# Altium footprint library IND_TH.PcbLib: 9 footprints
Each footprint in its own frame and in the unit in brackets; x right, y up, seen from the top. Pads: shape width x height; smd on the part's side, far side on the other; paste and mask are expansions set on the pad; w line width, h text height; cw(c..) or ccw(c..) is an arc to the next point about the centre after c.
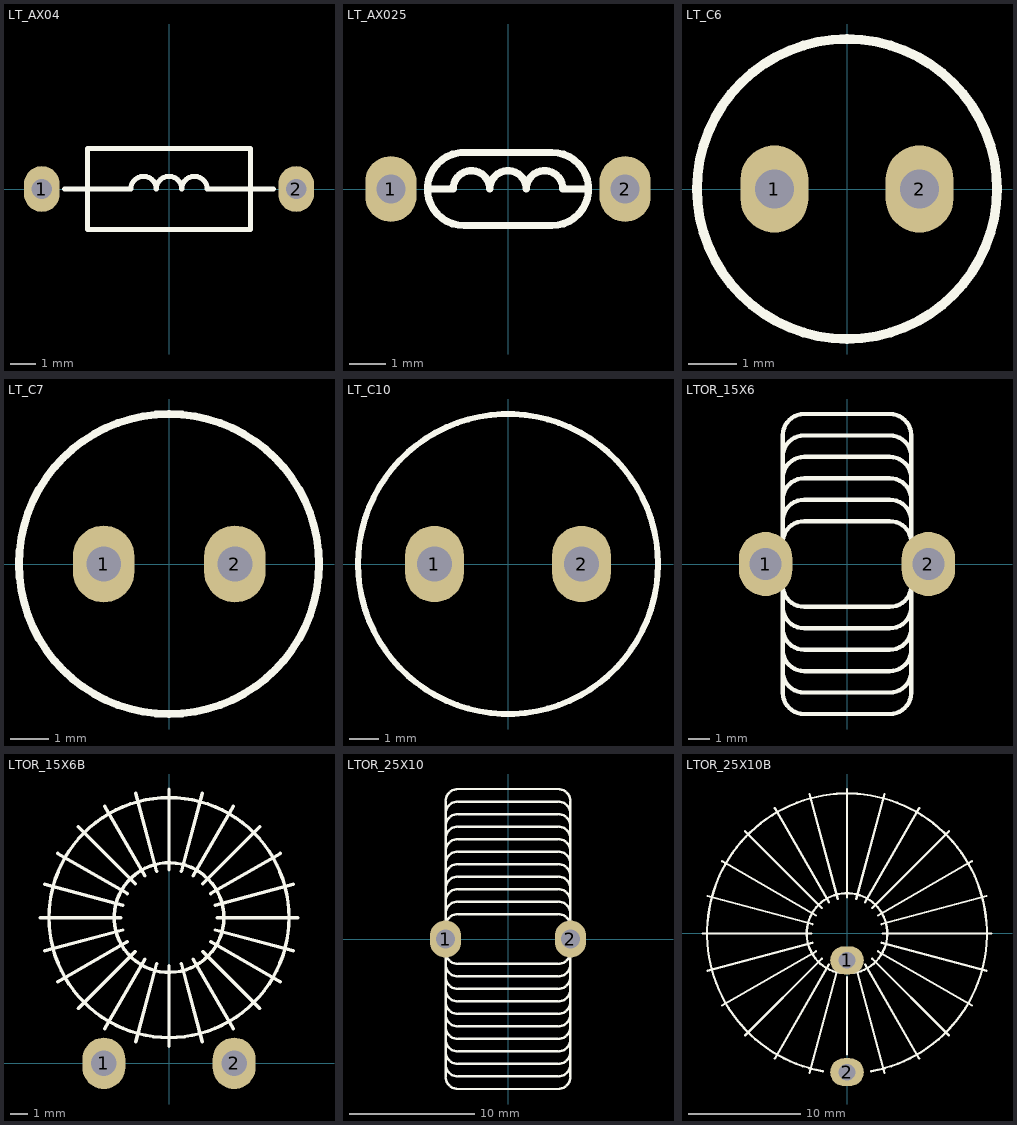
[diagram p0: the footprints below, top view; thin cyan lines are the x and y axes]

## LT_AX04 [mm] "INDUCTOR, Axial, 9.8mm,"
pads (2):
  oval 1.4x1.8 hole 0.8: 1(-5,0) 2(5,0)
Top Overlay:
  lines w0.2: -4.1,0 -1.5,0 cw(c-1,0) -0.5,0 cw(c0,0) 0.5,0 cw(c1,0) 1.5,0 4.1,0 ; -3.2,-1.6 -3.2,1.6 3.2,1.6 3.2,-1.6 -3.2,-1.6
3D body "RES 0.25W.STEP": height 2.69, standoff -2.11, extent -5.15,-1.568 5.15,1.568

## LT_AX025 [mm] "INDUCTOR, Axial, 6.4mm,"
pads (2):
  oval 1.4x1.8 hole 0.8 mask+0.1: 1(-3.2,0) 2(3.2,0)
Top Overlay:
  lines w0.2: -2.2,0 -1.5,0 cw(c-1,0) -0.5,0 cw(c0,0) 0.5,0 cw(c1,0) 1.5,0 2.2,0 ; -1.3,1 1.2,1 cw(c1.2,0) 1.2,-1 -1.2,-1 cw(c-1.2,0) -1.2,1
3D body "Inductor.STEP": height 1.92, standoff -2, extent -3.429,-0.92 3.429,0.92

## LT_C6 [mm] "INDUCTOR, Cylinder, 6mm,"
pads (2):
  oval 1.4x1.8 hole 0.8 mask+0.1: 1(-1.5,0) 2(1.5,0)
Top Overlay:
  circle w0.2: c0,0 r3.1
3D body "User Library-L6-8-3.STEP": height 8, standoff -3.7, extent -3,-3 3,3

## LT_C7 [mm] "INDUCTOR, Cylinder, 7.5mm,"
pads (2):
  oval 1.6x2 hole 0.9 mask+0.1: 1(-1.7,0) 2(1.714,0)
Top Overlay:
  circle w0.2: c0,0 r3.9
3D body "Coilcraft-DR0608-DEFAULT.STEP": height 10.7, standoff -3.8, extent -3.75,-3.75 3.75,3.75

## LT_C10 [mm] "INDUCTOR, Cylinder, 10mm,"
pads (2):
  oval 2x2.6 hole 1.2: 1(-2.5,0) 2(2.5,0)
Top Overlay:
  circle w0.2: c0,0 r5.1
3D body "User Library-Inductor 10x12 (200 mils).STEP": height 12.13, standoff -3.87, extent -5,-5 5,5

## LTOR_15X6 [mm] "INDUCTOR, TORIOD, 15.0X6.0mm"
pads (2):
  oval 2.5x3 hole 1.5: 1(-3.8,0) 2(3.8,0)
Top Overlay:
  lines w0.2: -3,-5 ccw(c-2,-5) -2,-6 2,-6 ccw(c2,-5) 3,-5 ; -3,-4 ccw(c-2,-4) -2,-5 2,-5 ccw(c2,-4) 3,-4 ; -3,-3 ccw(c-2,-3) -2,-4 2,-4 ccw(c2,-3) 3,-3 ; -3,-2 ccw(c-2,-2) -2,-3 2,-3 ccw(c2,-2) 3,-2 ; -3,-1.3 -3,-6 ccw(c-2,-6) -2,-7 2,-7 ccw(c2,-6) 3,-6 3,-1.3 ; -3,-1 ccw(c-2,-1) -2,-2 2,-2 ccw(c2,-1) 3,-1 ; -3,1 cw(c-2,1) -2,2 2,2 cw(c2,1) 3,1 ; -3,1.3 -3,6 cw(c-2,6) -2,7 2,7 cw(c2,6) 3,6 3,1.3 ; -3,2 cw(c-2,2) -2,3 2,3 cw(c2,2) 3,2 ; -3,3 cw(c-2,3) -2,4 2,4 cw(c2,3) 3,3 ; -3,4 cw(c-2,4) -2,5 2,5 cw(c2,4) 3,4 ; -3,5 cw(c-2,5) -2,6 2,6 cw(c2,5) 3,5
3D body "Inductor1_70_2.step": height 13.85, standoff -5.5, extent -3.85,-6.847 3.85,6.847

## LTOR_15X6B [mm] "INDUCTOR, TORIOD, 15.0X6.0mm BENDED"
pads (2):
  oval 2.5x3 hole 1.5: 1(-3.8,0) 2(3.8,0)
Top Overlay:
  circle w0.2: c0.004,8.5 r3.2
  circle w0.2: c0,8.5 r7
  lines w0.2: -7.5,8.5 -2.8,8.5 ; -7.244,6.559 -2.705,7.775 ; -7.244,10.441 -2.705,9.225 ; -6.495,4.75 -2.425,7.1 ; -6.495,12.25 -2.425,9.9 ; -5.303,3.197 -1.98,6.52 ; -5.303,13.803 -1.98,10.48 ; -3.75,2.005 -1.4,6.075 ; -3.75,14.995 -1.4,10.925 ; -1.941,1.256 -0.725,5.795 ; -1.941,15.744 -0.725,11.205 ; 0,1 0,5.7 ; 0,11.3 0,16 ; 0.725,5.795 1.941,1.256 ; 0.725,11.205 1.941,15.744 ; 1.4,6.075 3.75,2.005 ; 1.4,10.925 3.75,14.995 ; 1.98,6.52 5.303,3.197 ; 1.98,10.48 5.303,13.803 ; 2.425,7.1 6.495,4.75 ; 2.425,9.9 6.495,12.25 ; 2.705,7.775 7.244,6.559 ; 2.705,9.225 7.244,10.441 ; 2.8,8.5 7.5,8.5
3D body "Inductor1_70_2.step": height 7.65, standoff -0.05, extent -6.847,-3.9 6.847,15.446

## LTOR_25X10 [mm] "INDUCTOR, TORIOD, 25.0X10.0mm"
pads (2):
  oval 2.5x3 hole 1.5: 1(-5,0) 2(5,0)
Top Overlay:
  lines w0.2: -5,-10 ccw(c-4,-10) -4,-11 4,-11 ccw(c4,-10) 5,-10 ; -5,-9 ccw(c-4,-9) -4,-10 4,-10 ccw(c4,-9) 5,-9 ; -5,-8 ccw(c-4,-8) -4,-9 4,-9 ccw(c4,-8) 5,-8 ; -5,-7 ccw(c-4,-7) -4,-8 4,-8 ccw(c4,-7) 5,-7 ; -5,-6 ccw(c-4,-6) -4,-7 4,-7 ccw(c4,-6) 5,-6 ; -5,-5 ccw(c-4,-5) -4,-6 4,-6 ccw(c4,-5) 5,-5 ; -5,-4 ccw(c-4,-4) -4,-5 4,-5 ccw(c4,-4) 5,-4 ; -5,-3 ccw(c-4,-3) -4,-4 4,-4 ccw(c4,-3) 5,-3 ; -5,-2 ccw(c-4,-2) -4,-3 4,-3 ccw(c4,-2) 5,-2 ; -5,-1.3 -5,-11 ccw(c-4,-11) -4,-12 4,-12 ccw(c4,-11) 5,-11 5,-1.3 ; -5,-1 ccw(c-4,-1) -4,-2 4,-2 ccw(c4,-1) 5,-1 ; -5,1 cw(c-4,1) -4,2 4,2 cw(c4,1) 5,1 ; -5,1.3 -5,11 cw(c-4,11) -4,12 4,12 cw(c4,11) 5,11 5,1.3 ; -5,2 cw(c-4,2) -4,3 4,3 cw(c4,2) 5,2 ; -5,3 cw(c-4,3) -4,4 4,4 cw(c4,3) 5,3 ; -5,4 cw(c-4,4) -4,5 4,5 cw(c4,4) 5,4 ; -5,5 cw(c-4,5) -4,6 4,6 cw(c4,5) 5,5 ; -5,6 cw(c-4,6) -4,7 4,7 cw(c4,6) 5,6 ; -5,7 cw(c-4,7) -4,8 4,8 cw(c4,7) 5,7 ; -5,8 cw(c-4,8) -4,9 4,9 cw(c4,8) 5,8 ; -5,9 cw(c-4,9) -4,10 4,10 cw(c4,9) 5,9 ; -5,10 cw(c-4,10) -4,11 4,11 cw(c4,10) 5,10
3D body "User Library-5701-RC.STEP": height 23.03, standoff -12, extent -5.62,-11.21 5.7,11.21

## LTOR_25X10B [mm] "INDUCTOR, TORIOD, 25.0X10.0mm BENDED"
pads (2):
  oval 3x2.5 hole 1.5: 1(0,-2.4) 2(0,-12.4)
Top Overlay:
  lines w0.2: -12.9,0 -3.2,0 ; -12.46,-3.339 -3.091,-0.828 ; -12.46,3.339 -3.091,0.828 ; -11.172,-6.45 -2.771,-1.6 ; -11.172,6.45 -2.771,1.6 ; -9.122,-9.122 -2.263,-2.263 ; -9.122,9.122 -2.263,2.263 ; -6.45,-11.172 -1.6,-2.771 ; -6.45,11.172 -1.6,2.771 ; -3.339,-12.46 -0.942,-3.516 ; -3.339,12.46 -0.828,3.091 ; -2.171,-12.31 cw(c0,0) 2.171,-12.31 ; -0.625,-3.545 cw(c0,0) 0.625,-3.545 ; 0,-10.8 0,-3.9 ; 0,3.2 0,12.9 ; 0.828,3.091 3.339,12.46 ; 0.942,-3.516 3.339,-12.46 ; 1.6,-2.771 6.45,-11.172 ; 1.6,2.771 6.45,11.172 ; 2.263,-2.263 9.122,-9.122 ; 2.263,2.263 9.122,9.122 ; 2.771,-1.6 11.172,-6.45 ; 2.771,1.6 11.172,6.45 ; 3.091,-0.828 12.46,-3.339 ; 3.091,0.828 12.46,3.339 ; 3.2,0 12.9,0
3D body "User Library-5701-RC.STEP": height 11.26, standoff -0.06, extent -11.21,-23.8 11.21,11.235